# Altium footprint library kc133a.PcbLib: 2 footprints
Each footprint in its own frame and in the unit in brackets; x right, y up, seen from the top. Pads: shape width x height; smd on the part's side, far side on the other; paste and mask are expansions set on the pad; w line width, h text height; cw(c..) or ccw(c..) is an arc to the next point about the centre after c.
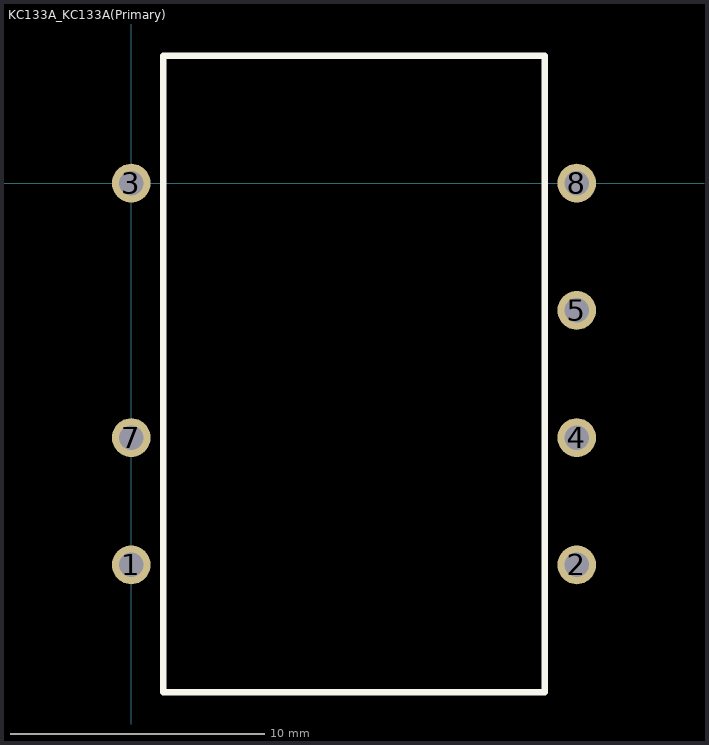
[diagram p0: the footprints below, top view; thin cyan lines are the x and y axes]

## KC133A_KC133A(Primary) [mil]
pads (7):
  round 60 hole 38: 1(0,-590.55) 2(688.98,-590.55) 3(0,0) 4(688.98,-393.7) 5(688.98,-196.85) 7(0,-393.7) 8(688.98,0)
Top Overlay:
  lines w10: 49.21,-787.4 639.76,-787.4 639.76,196.85 49.21,196.85 49.21,-787.4

## PCBComponent_1 [mil]